# Altium schematic symbol library FCN-268D008-G1D.SchLib: 1 symbol
Pins are listed as number, name and electrical type; pins without a type are passive.

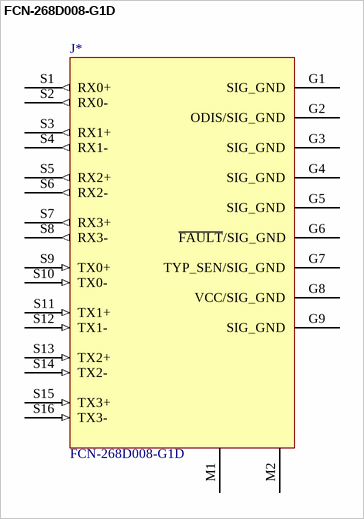
[diagram p0: symbol FCN-268D008-G1D]

## FCN-268D008-G1D
designator J*
pins: G1 SIG_GND, G2 ODIS/SIG_GND, G3 SIG_GND, G4 SIG_GND, G5 SIG_GND, G6 ~{FAULT}/SIG_GND, G7 TYP_SEN/SIG_GND, G8 VCC/SIG_GND, G9 SIG_GND, M1, M2, S1 RX0+ (out), S2 RX0- (out), S3 RX1+ (out), S4 RX1- (out), S5 RX2+ (out), S6 RX2- (out), S7 RX3+ (out), S8 RX3- (out), S9 TX0+ (in), S10 TX0- (in), S11 TX1+ (in), S12 TX1- (in), S13 TX2+ (in), S14 TX2- (in), S15 TX3+ (in), S16 TX3- (in)